# EAGLE library part STC104 (library Transputers)
C104 peripheral INMOS/ST-Microelectronics 32 way asynchronous packet routing switch, 200Mpackets/s. Source: ST-Microelectronics Datasheet 1996 Arto Kyyhkynen, artoky@dlc.fi
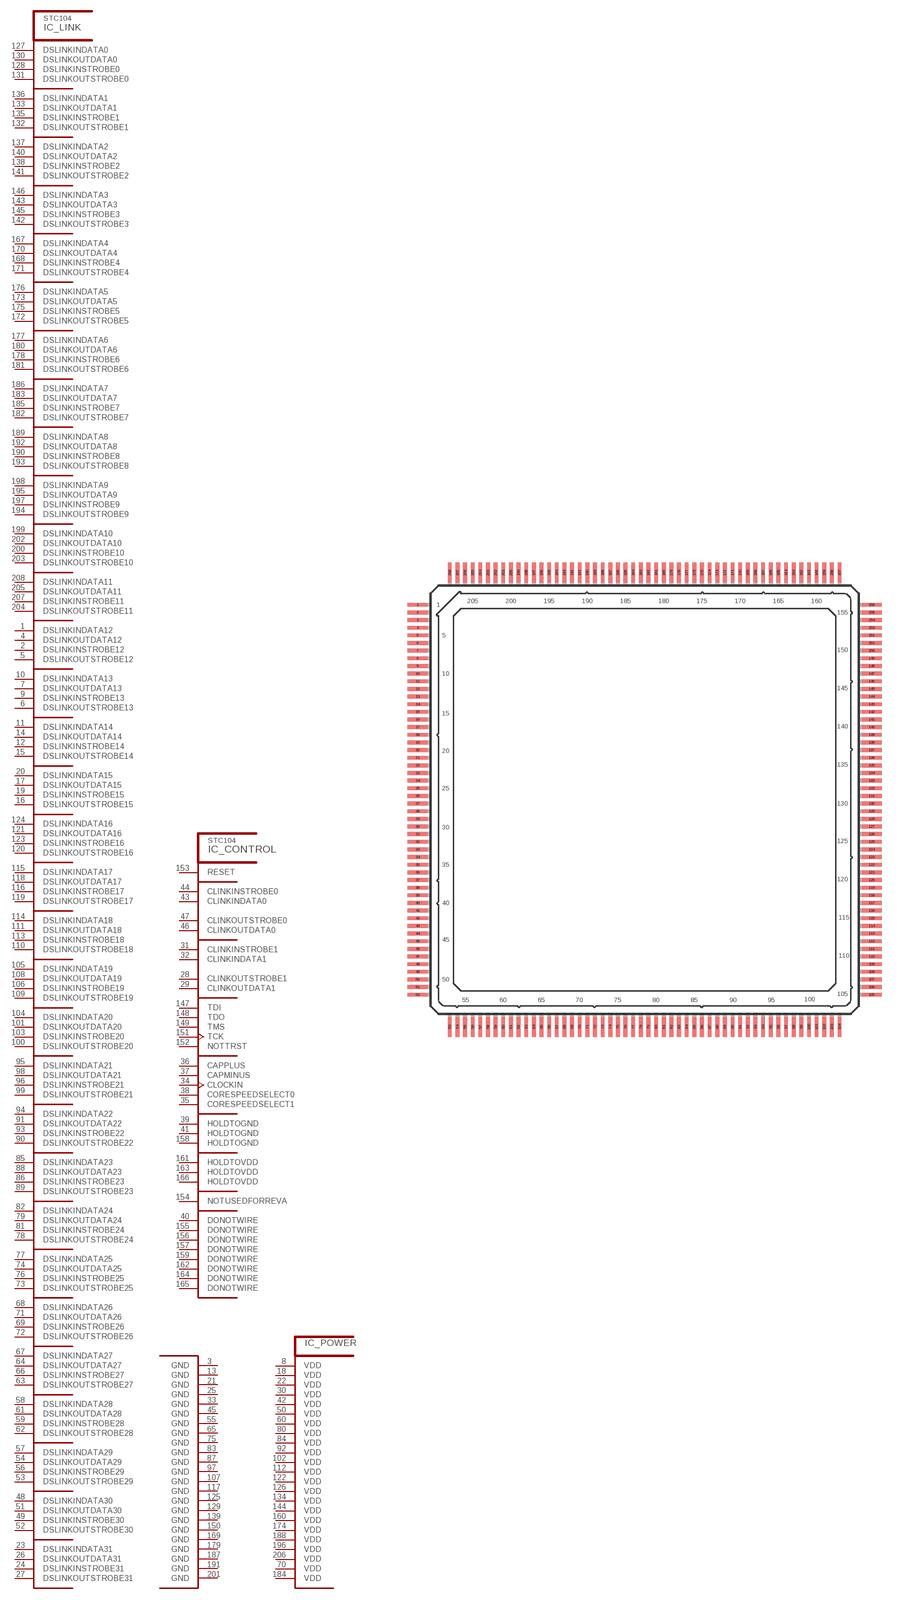
[diagram p9: symbol with the pads of CLCC208; footprint CLCC208]

Designator prefix IC; gates _CONTROL=C104_CTR _LINK=C104_LINK _POWER=C104_SUP

## STC1041S10F  [CLCC208]
1  _LINK:DSLINKINDATA12  in
2  _LINK:DSLINKINSTROBE12  in
3  _POWER:GND  pwr
4  _LINK:DSLINKOUTDATA12  out
5  _LINK:DSLINKOUTSTROBE12  out
6  _LINK:DSLINKOUTSTROBE13  out
7  _LINK:DSLINKOUTDATA13  out
8  _POWER:VDD  pwr
9  _LINK:DSLINKINSTROBE13  in
10  _LINK:DSLINKINDATA13  in
11  _LINK:DSLINKINDATA14  in
12  _LINK:DSLINKINSTROBE14  in
13  _POWER:GND  pwr
14  _LINK:DSLINKOUTDATA14  out
15  _LINK:DSLINKOUTSTROBE14  out
16  _LINK:DSLINKOUTSTROBE15  out
17  _LINK:DSLINKOUTDATA15  out
18  _POWER:VDD  pwr
19  _LINK:DSLINKINSTROBE15  in
20  _LINK:DSLINKINDATA15  in
21  _POWER:GND  pwr
22  _POWER:VDD  pwr
23  _LINK:DSLINKINDATA31  in
24  _LINK:DSLINKINSTROBE31  in
25  _POWER:GND  pwr
26  _LINK:DSLINKOUTDATA31  out
27  _LINK:DSLINKOUTSTROBE31  out
28  _CONTROL:CLINKOUTSTROBE1  out
29  _CONTROL:CLINKOUTDATA1  out
30  _POWER:VDD  pwr
31  _CONTROL:CLINKINSTROBE1  in
32  _CONTROL:CLINKINDATA1  in
33  _POWER:GND  pwr
34  _CONTROL:CLOCKIN  in
35  _CONTROL:CORESPEEDSELECT1  in
36  _CONTROL:CAPPLUS  pas
37  _CONTROL:CAPMINUS  pas
38  _CONTROL:CORESPEEDSELECT0  in
39  _CONTROL:HOLDTOGND  pas
40  _CONTROL:DONOTWIRE  nc
41  _CONTROL:HOLDTOGND  pas
42  _POWER:VDD  pwr
43  _CONTROL:CLINKINDATA0  in
44  _CONTROL:CLINKINSTROBE0  in
45  _POWER:GND  pwr
46  _CONTROL:CLINKOUTDATA0  out
47  _CONTROL:CLINKOUTSTROBE0  out
48  _LINK:DSLINKINDATA30  in
49  _LINK:DSLINKINSTROBE30  in
50  _POWER:VDD  pwr
51  _LINK:DSLINKOUTDATA30  out
52  _LINK:DSLINKOUTSTROBE30  out
53  _LINK:DSLINKOUTSTROBE29  out
54  _LINK:DSLINKOUTDATA29  out
55  _POWER:GND  pwr
56  _LINK:DSLINKINSTROBE29  in
57  _LINK:DSLINKINDATA29  in
58  _LINK:DSLINKINDATA28  in
59  _LINK:DSLINKINSTROBE28  in
60  _POWER:VDD  pwr
61  _LINK:DSLINKOUTDATA28  out
62  _LINK:DSLINKOUTSTROBE28  out
63  _LINK:DSLINKOUTSTROBE27  out
64  _LINK:DSLINKOUTDATA27  out
65  _POWER:GND  pwr
66  _LINK:DSLINKINSTROBE27  in
67  _LINK:DSLINKINDATA27  in
68  _LINK:DSLINKINDATA26  in
69  _LINK:DSLINKINSTROBE26  in
70  _POWER:VDD  pwr
71  _LINK:DSLINKOUTDATA26  out
72  _LINK:DSLINKOUTSTROBE26  out
73  _LINK:DSLINKOUTSTROBE25  out
74  _LINK:DSLINKOUTDATA25  out
75  _POWER:GND  pwr
76  _LINK:DSLINKINSTROBE25  in
77  _LINK:DSLINKINDATA25  in
78  _LINK:DSLINKOUTSTROBE24  out
79  _LINK:DSLINKOUTDATA24  out
80  _POWER:VDD  pwr
81  _LINK:DSLINKINSTROBE24  in
82  _LINK:DSLINKINDATA24  in
83  _POWER:GND  pwr
84  _POWER:VDD  pwr
85  _LINK:DSLINKINDATA23  in
86  _LINK:DSLINKINSTROBE23  in
87  _POWER:GND  pwr
88  _LINK:DSLINKOUTDATA23  out
89  _LINK:DSLINKOUTSTROBE23  out
90  _LINK:DSLINKOUTSTROBE22  out
91  _LINK:DSLINKOUTDATA22  out
92  _POWER:VDD  pwr
93  _LINK:DSLINKINSTROBE22  in
94  _LINK:DSLINKINDATA22  in
95  _LINK:DSLINKINDATA21  in
96  _LINK:DSLINKINSTROBE21  in
97  _POWER:GND  pwr
98  _LINK:DSLINKOUTDATA21  out
99  _LINK:DSLINKOUTSTROBE21  out
100  _LINK:DSLINKOUTSTROBE20  out
101  _LINK:DSLINKOUTDATA20  out
102  _POWER:VDD  pwr
103  _LINK:DSLINKINSTROBE20  in
104  _LINK:DSLINKINDATA20  in
105  _LINK:DSLINKINDATA19  in
106  _LINK:DSLINKINSTROBE19  in
107  _POWER:GND  pwr
108  _LINK:DSLINKOUTDATA19  out
109  _LINK:DSLINKOUTSTROBE19  out
110  _LINK:DSLINKOUTSTROBE18  out
111  _LINK:DSLINKOUTDATA18  out
112  _POWER:VDD  pwr
113  _LINK:DSLINKINSTROBE18  in
114  _LINK:DSLINKINDATA18  in
115  _LINK:DSLINKINDATA17  in
116  _LINK:DSLINKINSTROBE17  in
117  _POWER:GND  pwr
118  _LINK:DSLINKOUTDATA17  out
119  _LINK:DSLINKOUTSTROBE17  out
120  _LINK:DSLINKOUTSTROBE16  out
121  _LINK:DSLINKOUTDATA16  out
122  _POWER:VDD  pwr
123  _LINK:DSLINKINSTROBE16  in
124  _LINK:DSLINKINDATA16  in
125  _POWER:GND  pwr
126  _POWER:VDD  pwr
127  _LINK:DSLINKINDATA0  in
128  _LINK:DSLINKINSTROBE0  in
129  _POWER:GND  pwr
130  _LINK:DSLINKOUTDATA0  out
131  _LINK:DSLINKOUTSTROBE0  out
132  _LINK:DSLINKOUTSTROBE1  out
133  _LINK:DSLINKOUTDATA1  out
134  _POWER:VDD  pwr
135  _LINK:DSLINKINSTROBE1  in
136  _LINK:DSLINKINDATA1  in
137  _LINK:DSLINKINDATA2  in
138  _LINK:DSLINKINSTROBE2  in
139  _POWER:GND  pwr
140  _LINK:DSLINKOUTDATA2  out
141  _LINK:DSLINKOUTSTROBE2  out
142  _LINK:DSLINKOUTSTROBE3  out
143  _LINK:DSLINKOUTDATA3  out
144  _POWER:VDD  pwr
145  _LINK:DSLINKINSTROBE3  in
146  _LINK:DSLINKINDATA3  in
147  _CONTROL:TDI  in
148  _CONTROL:TDO  out
149  _CONTROL:TMS  in
150  _POWER:GND  pwr
151  _CONTROL:TCK  in
152  _CONTROL:NOTTRST  in
153  _CONTROL:RESET  in
154  _CONTROL:NOTUSEDFORREVA  pas
155  _CONTROL:DONOTWIRE  nc
156  _CONTROL:DONOTWIRE  nc
157  _CONTROL:DONOTWIRE  nc
158  _CONTROL:HOLDTOGND  pas
159  _CONTROL:DONOTWIRE  nc
160  _POWER:VDD  pwr
161  _CONTROL:HOLDTOVDD  pas
162  _CONTROL:DONOTWIRE  nc
163  _CONTROL:HOLDTOVDD  pas
164  _CONTROL:DONOTWIRE  nc
165  _CONTROL:DONOTWIRE  nc
166  _CONTROL:HOLDTOVDD  pas
167  _LINK:DSLINKINDATA4  in
168  _LINK:DSLINKINSTROBE4  in
169  _POWER:GND  pwr
170  _LINK:DSLINKOUTDATA4  out
171  _LINK:DSLINKOUTSTROBE4  out
172  _LINK:DSLINKOUTSTROBE5  out
173  _LINK:DSLINKOUTDATA5  out
174  _POWER:VDD  pwr
175  _LINK:DSLINKINSTROBE5  in
176  _LINK:DSLINKINDATA5  in
177  _LINK:DSLINKINDATA6  in
178  _LINK:DSLINKINSTROBE6  in
179  _POWER:GND  pwr
180  _LINK:DSLINKOUTDATA6  out
181  _LINK:DSLINKOUTSTROBE6  out
182  _LINK:DSLINKOUTSTROBE7  out
183  _LINK:DSLINKOUTDATA7  out
184  _POWER:VDD  pwr
185  _LINK:DSLINKINSTROBE7  in
186  _LINK:DSLINKINDATA7  in
187  _POWER:GND  pwr
188  _POWER:VDD  pwr
189  _LINK:DSLINKINDATA8  in
190  _LINK:DSLINKINSTROBE8  in
191  _POWER:GND  pwr
192  _LINK:DSLINKOUTDATA8  out
193  _LINK:DSLINKOUTSTROBE8  out
194  _LINK:DSLINKOUTSTROBE9  out
195  _LINK:DSLINKOUTDATA9  out
196  _POWER:VDD  pwr
197  _LINK:DSLINKINSTROBE9  in
198  _LINK:DSLINKINDATA9  in
199  _LINK:DSLINKINDATA10  in
200  _LINK:DSLINKINSTROBE10  in
201  _POWER:GND  pwr
202  _LINK:DSLINKOUTDATA10  out
203  _LINK:DSLINKOUTSTROBE10  out
204  _LINK:DSLINKOUTSTROBE11  out
205  _LINK:DSLINKOUTDATA11  out
206  _POWER:VDD  pwr
207  _LINK:DSLINKINSTROBE11  in
208  _LINK:DSLINKINDATA11  in

## Footprint CLCC208 (pad centres in mm)
Cavity Down Ceramic Leaded Chip Carrier INMOS/ST-Microelectronics
smd 1.3 x 0.25: 1 -14.85,12.75; 2 -14.85,12.25; 3 -14.85,11.75; 4 -14.85,11.25; 5 -14.85,10.75; 6 -14.85,10.25; 7 -14.85,9.75; 8 -14.85,9.25; 9 -14.85,8.75; 10 -14.85,8.25; 11 -14.85,7.75; 12 -14.85,7.25; 13 -14.85,6.75; 14 -14.85,6.25; 15 -14.85,5.75; 16 -14.85,5.25; 17 -14.85,4.75; 18 -14.85,4.25; 19 -14.85,3.75; 20 -14.85,3.25; 21 -14.85,2.75; 22 -14.85,2.25; 23 -14.85,1.75; 24 -14.85,1.25; 25 -14.85,0.75; 26 -14.85,0.25; 27 -14.85,-0.25; 28 -14.85,-0.75; 29 -14.85,-1.25; 30 -14.85,-1.75; 31 -14.85,-2.25; 32 -14.85,-2.75; 33 -14.85,-3.25; 34 -14.85,-3.75; 35 -14.85,-4.25; 36 -14.85,-4.75; 37 -14.85,-5.25; 38 -14.85,-5.75; 39 -14.85,-6.25; 40 -14.85,-6.75; 41 -14.85,-7.25; 42 -14.85,-7.75; 43 -14.85,-8.25; 44 -14.85,-8.75; 45 -14.85,-9.25; 46 -14.85,-9.75; 47 -14.85,-10.25; 48 -14.85,-10.75; 49 -14.85,-11.25; 50 -14.85,-11.75; 51 -14.85,-12.25; 52 -14.85,-12.75; 105 14.85,-12.75; 106 14.85,-12.25; 107 14.85,-11.75; 108 14.85,-11.25; 109 14.85,-10.75; 110 14.85,-10.25; 111 14.85,-9.75; 112 14.85,-9.25; 113 14.85,-8.75; 114 14.85,-8.25; 115 14.85,-7.75; 116 14.85,-7.25; 117 14.85,-6.75; 118 14.85,-6.25; 119 14.85,-5.75; 120 14.85,-5.25; 121 14.85,-4.75; 122 14.85,-4.25; 123 14.85,-3.75; 124 14.85,-3.25; 125 14.85,-2.75; 126 14.85,-2.25; 127 14.85,-1.75; 128 14.85,-1.25; 129 14.85,-0.75; 130 14.85,-0.25; 131 14.85,0.25; 132 14.85,0.75; 133 14.85,1.25; 134 14.85,1.75; 135 14.85,2.25; 136 14.85,2.75; 137 14.85,3.25; 138 14.85,3.75; 139 14.85,4.25; 140 14.85,4.75; 141 14.85,5.25; 142 14.85,5.75; 143 14.85,6.25; 144 14.85,6.75; 145 14.85,7.25; 146 14.85,7.75; 147 14.85,8.25; 148 14.85,8.75; 149 14.85,9.25; 150 14.85,9.75; 151 14.85,10.25; 152 14.85,10.75; 153 14.85,11.25; 154 14.85,11.75; 155 14.85,12.25; 156 14.85,12.75
smd 0.25 x 1.3: 53 -12.75,-14.85; 54 -12.25,-14.85; 55 -11.75,-14.85; 56 -11.25,-14.85; 57 -10.75,-14.85; 58 -10.25,-14.85; 59 -9.75,-14.85; 60 -9.25,-14.85; 61 -8.75,-14.85; 62 -8.25,-14.85; 63 -7.75,-14.85; 64 -7.25,-14.85; 65 -6.75,-14.85; 66 -6.25,-14.85; 67 -5.75,-14.85; 68 -5.25,-14.85; 69 -4.75,-14.85; 70 -4.25,-14.85; 71 -3.75,-14.85; 72 -3.25,-14.85; 73 -2.75,-14.85; 74 -2.25,-14.85; 75 -1.75,-14.85; 76 -1.25,-14.85; 77 -0.75,-14.85; 78 -0.25,-14.85; 79 0.25,-14.85; 80 0.75,-14.85; 81 1.25,-14.85; 82 1.75,-14.85; 83 2.25,-14.85; 84 2.75,-14.85; 85 3.25,-14.85; 86 3.75,-14.85; 87 4.25,-14.85; 88 4.75,-14.85; 89 5.25,-14.85; 90 5.75,-14.85; 91 6.25,-14.85; 92 6.75,-14.85; 93 7.25,-14.85; 94 7.75,-14.85; 95 8.25,-14.85; 96 8.75,-14.85; 97 9.25,-14.85; 98 9.75,-14.85; 99 10.25,-14.85; 100 10.75,-14.85; 101 11.25,-14.85; 102 11.75,-14.85; 103 12.25,-14.85; 104 12.75,-14.85; 157 12.75,14.85; 158 12.25,14.85; 159 11.75,14.85; 160 11.25,14.85; 161 10.75,14.85; 162 10.25,14.85; 163 9.75,14.85; 164 9.25,14.85; 165 8.75,14.85; 166 8.25,14.85; 167 7.75,14.85; 168 7.25,14.85; 169 6.75,14.85; 170 6.25,14.85; 171 5.75,14.85; 172 5.25,14.85; 173 4.75,14.85; 174 4.25,14.85; 175 3.75,14.85; 176 3.25,14.85; 177 2.75,14.85; 178 2.25,14.85; 179 1.75,14.85; 180 1.25,14.85; 181 0.75,14.85; 182 0.25,14.85; 183 -0.25,14.85; 184 -0.75,14.85; 185 -1.25,14.85; 186 -1.75,14.85; 187 -2.25,14.85; 188 -2.75,14.85; 189 -3.25,14.85; 190 -3.75,14.85; 191 -4.25,14.85; 192 -4.75,14.85; 193 -5.25,14.85; 194 -5.75,14.85; 195 -6.25,14.85; 196 -6.75,14.85; 197 -7.25,14.85; 198 -7.75,14.85; 199 -8.25,14.85; 200 -8.75,14.85; 201 -9.25,14.85; 202 -9.75,14.85; 203 -10.25,14.85; 204 -10.75,14.85; 205 -11.25,14.85; 206 -11.75,14.85; 207 -12.25,14.85; 208 -12.75,14.85